# EAGLE library part ADXL375BCCZ (library NR_IC)
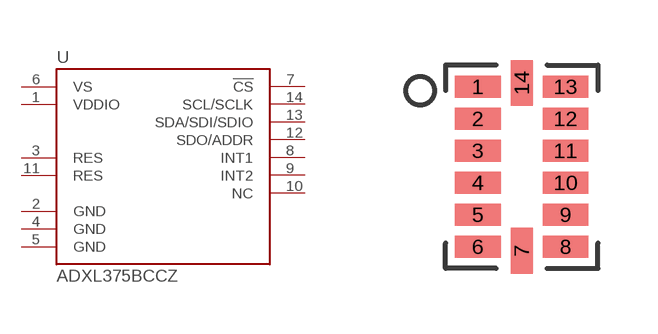
[diagram p1: symbol with the pads of LGA-14; footprint LGA-14]

Designator prefix U

## ADXL375BCCZ  [LGA-14]
1  VDDIO
2  GND
3  RES
4  GND
5  GND
6  VS
7  !CS!
8  INT1
9  INT2
10  NC  nc
11  RES
12  SDO/ADDR
13  SDA/SDI/SDIO
14  SCL/SCLK

## Footprint LGA-14 (pad centres in mm)
smd 1.145 x 0.55: 1 -1.097,2; 2 -1.097,1.2; 3 -1.097,0.4; 4 -1.097,-0.4; 5 -1.097,-1.2; 6 -1.097,-2; 8 1.097,-2; 9 1.097,-1.2; 10 1.097,-0.4; 11 1.097,0.4; 12 1.097,1.2; 13 1.097,2
smd 0.55 x 1.145: 7 0,-2.098; 14 0,2.098